# EAGLE library part MCU_ATTINY87 (library akita)
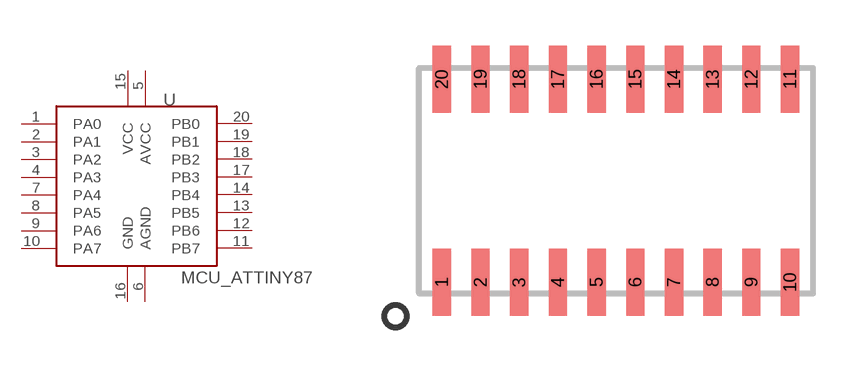
[diagram p60: symbol with the pads of SOIC20; footprint SOIC20]

Designator prefix U

## MCU_ATTINY87  [SOIC20]
1  PA0
2  PA1
3  PA2
4  PA3
5  AVCC
6  AGND
7  PA4
8  PA5
9  PA6
10  PA7
11  PB7
12  PB6
13  PB5
14  PB4
15  VCC
16  GND
17  PB3
18  PB2
19  PB1
20  PB0

## Footprint SOIC20 (pad centres in mm)
smd 0.6 x 2.2: 1 -5.715,-3.33; 2 -4.445,-3.33; 3 -3.175,-3.33; 4 -1.905,-3.33; 5 -0.635,-3.33; 6 0.635,-3.33; 7 1.905,-3.33; 8 3.175,-3.33; 9 4.445,-3.33; 10 5.715,-3.33; 11 5.715,3.33; 12 4.445,3.33; 13 3.175,3.33; 14 1.905,3.33; 15 0.635,3.33; 16 -0.635,3.33; 17 -1.905,3.33; 18 -3.175,3.33; 19 -4.445,3.33; 20 -5.715,3.33